# Altium schematic symbol library TYN412..SchLib: 1 symbol
Pins are listed as number, name and electrical type; pins without a type are passive.

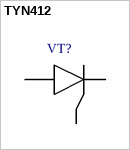
[diagram p0: symbol TYN412]

## TYN412
designator VT?
footprint TO-220-3
footprint TO-220-3
pins: 1, 2, 3